# Altium schematic symbol library BF722.Schlib: 1 symbol
Pins are listed as number, name and electrical type; pins without a type are passive.

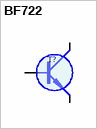
[diagram p0: symbol BF722]

## BF722
designator T?
SOT223 250V 0.1A   60MHz 1.6p (30V) (BF723)
pins: 1 B, 2 C (oc), 3 E (oe)
1 alternate drawing of the same symbol